# Altium schematic symbol library BIPOLAR-PNP-DPAK.SchLib: 1 symbol
Pins are listed as number, name and electrical type; pins without a type are passive.

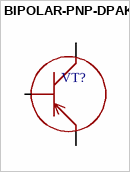
[diagram p0: symbol BIPOLAR-PNP-DPAK]

## BIPOLAR-PNP-DPAK
designator VT?
pins: 1 B, 3 E, 4 C